# EAGLE library part 555-ALT (library code next)
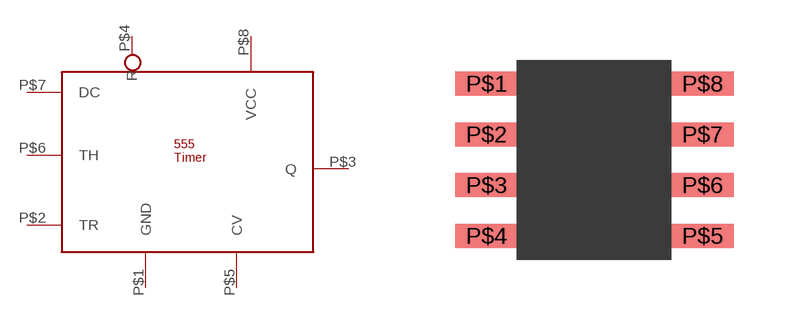
[diagram p1: symbol with the pads of 555SMD; footprint 555SMD]

Designator prefix -

## 555-ALT  [555SMD]
P$1  GND  pwr
P$2  TR  in
P$3  Q  out
P$4  R  in
P$5  CV  in
P$6  TH  in
P$7  DC
P$8  VCC  pwr

## Footprint 555SMD (pad centres in mm)
smd 1.55 x 0.6: P$1 -2.7,1.905; P$2 -2.7,0.635; P$3 -2.7,-0.635; P$4 -2.7,-1.905; P$5 2.7,-1.905; P$6 2.7,-0.635; P$7 2.7,0.635; P$8 2.7,1.905